# Altium schematic symbol library Transistor.schlib: 3 symbols
Pins are listed as number, name and electrical type; pins without a type are passive.

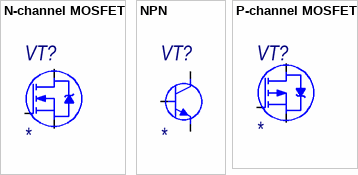
[diagram p0: symbols N-channel MOSFET to P-channel MOSFET]

## N-channel MOSFET
designator VT?
N-channel MOSFET; Name: *; Body: *
footprint TO220 (The TO-220 package)
footprint TO245 (The TO-247 package)
footprint TO220_HORIZONTAL (The TO-220 package HORIZONTAL)
footprint SOT23-3 (SOT23, 3 pin); pin to pad 2>3 3>2
pins: 1 G, 2 D, 3 S

## NPN
designator VT?
NPN; Name: *; Body: *
footprint SOT23-3 (SOT23, 3 pin)
pins: 1 B, 2 E, 3 C

## P-channel MOSFET
designator VT?
P-channel MOSFET; Name: *
footprint TO220 (The TO-220 package)
footprint TO245 (The TO-247 package)
footprint SOT23-3 (SOT23, 3 pin); pin to pad 2>3 3>2
footprint TO-252 (D-PAK, 3-Pads, Body 6,20x6,72mm (max), IPC Medium Density); pin to pad 2>4
pins: 1 G, 2 D, 3 S